# Altium schematic symbol library seeed.SchLib: 41 symbols
Pins are listed as number, name and electrical type; pins without a type are passive.

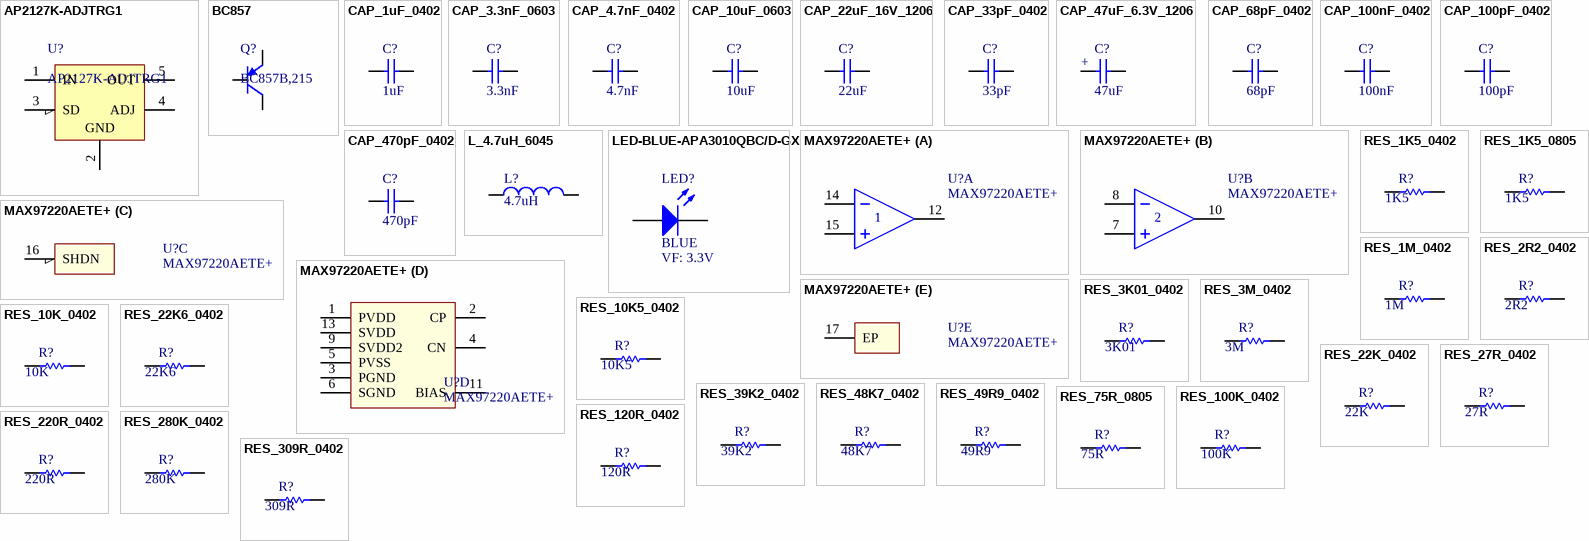
[diagram p0: symbols AP2127K-ADJTRG1 to RES_309R_0402]

## AP2127K-ADJTRG1
designator U?
300mA HIGH SPEED, EXTREMELY LOW NOISE CMOS LDO REGULATOR; Manufacturer: Diodes Inc; Vin(Max)(V): 5.5; Iq(Typ)(mA): 0.06; Vdo(Typ)(mV): 170; Vout Adj(Min)(V): 0.8; Eco-Plan: Green (RoHS & no Sb/Br); Accuracy(%): 2; Iout(Max)(A): 0.3; Vout Adj(Max)(V): 5.0; Vin(Min)(V): 2.5; SubFamily: Single Channel LDO; PackageVersion: 4093553-3/G; Code_JEDEC: MO-203; ComponentLink2Description: Datasheet; ComponentLink1URL: http://www.ti.com/; ComponentLink3Description: Package Specification; ComponentLink2URL: http://www.ti.com/general/docs/lit/getliterature.tsp?genericPartNumber=TPS71701&fileType=pdf; MPN: AP2127K-ADJTRG1; Mounting Technology: Surface Mount; ComponentLink1Description: Manufacturer URL; ComponentLink3URL: http://www.ti.com/litv/pdf/mpds025f; PackageDescription: 5-Pin Plastic Small-Outline, Body 2 x 1.25 mm, Pitch 0.65 mm; PackageReference: DCK0005A
footprint SOT23-5_N (SOT23, 5-Leads, Body 2.9x1.6mm, Pitch 0.95mm, Lead Span 2.8mm, IPC Medium Density)
footprint SOT23-5_L (SOT23, 5-Leads, Body 2.9x1.6mm, Pitch 0.95mm, Lead Span 2.8mm, IPC High Density)
footprint SOT23-5_M (SOT23, 5-Leads, Body 2.9x1.6mm, Pitch 0.95mm, Lead Span 2.8mm, IPC Low Density)
pins: 1 IN (power) "Input pin. A small capacitor is needed from this pin to ground to assure stability. Typical input capacitor = 1.0uF. Both input and output capacitor grounds should be tied back to the IC ground with no significant impedance (See Datasheet)", 2 GND (power) "Ground pin.", 3 SD "Driving the enable pin (EN) over 1.2V turns on the regulator. Driving this pin below 0.4V puts the regulator into shutdown mode, reducing operating current to 18nA typical.", 4 ADJ "Feedback pin (FB) for adjustable versions", 5 OUT (power) "Regulated output voltage pin. A small 1-uF ceramic capacitor is needed from this pin to ground to assure stability.See Input and Output Capacitor Requirements in the Application Information section for more details."

## BC857
designator Q?, comment BC857B,215
PNP,Vce=45V,Ic=0.1A,hfe=220~475; Manufacturer: Infineon; Ptot (max): 330Â mW; fT (typ): 250Â MHz; VCBO (max): 50Â V; ICM (max): 200Â mA; Green: TRUE; VCEO (max): 45Â V; VEBO (max): 5Â V; ICBO (max): 15Â nA; IC (max): 100Â mA; Packing: Reel; ComponentLink2Description: Datasheet; MPN: BC857B,215; PackageReference: SOT23; ComponentLink1URL: http://www.infineon.com/; IBM (max): 200Â mA; PackageDescription: 3-Pin Small Outline Transistor Package, 1.3 x 2.9 mm Body, 0.95 mm Pitch; ComponentLink3URL: http://www.infineon.com/dgdl/SOT23-Package_Overview.pdf?folderId=db3a30431936bc4b0119532290053c66&fileId=db3a30431936bc4b0119533468123c85; ComponentLink3Description: Package Specification; Mounting Technology: Surface Mount; ComponentLink1Description: Manufacturer URL; PackageVersion: Apr-08; Polarity: PNP; ComponentLink2URL: http://www.infineon.com/dgdl/bc857series_bc858series_bc859series_bc860series.pdf?folderId=db3a304314dca389011541d30fa21656&fileId=db3a304314dca389011541da0e3a1661
footprint NXP-SOT23_M (SOT23, 3-Leads, Body 3x1.4mm, Pitch 0.95mm, IPC Low Density)
footprint NXP-SOT23_N (SOT23, 3-Leads, Body 3x1.4mm, Pitch 0.95mm, IPC Medium Density)
footprint NXP-SOT23_L (SOT23, 3-Leads, Body 3x1.4mm, Pitch 0.95mm, IPC High Density)
pins: 1 B, 2 E, 3 C

## CAP_1uF_0402
designator C?, comment value 1uF  (hidden comment: GRM155R61C105KA12D)
0402 1μF ±10% 16V X5R; Voltage: 10V; PackageReference: 0402; MPN: GRM155R61C105KA12D; Dielectric: X5R
footprint CAPC0402(1005)33_L (Chip Capacitor, Body 1.0x0.5mm, Height 0.33mm, IPC High Density)
footprint CAPC0402(1005)33_M (Chip Capacitor, Body 1.0x0.5mm, Height 0.33mm, IPC Low Density)
footprint CAPC0402(1005)33_N (Chip Capacitor, Body 1.0x0.5mm, Height 0.33mm, IPC Medium Density)
pins: 1, 2

## CAP_3.3nF_0603
designator C?, comment value 3.3nF  (hidden comment: CL10C332JB8NFNC)
0603 3.3nF ±5% 50V C0G(NPO) H=0.8mm; PackageReference: 0603; MPN: CL10C332JB8NFNC; Voltage: 50V; Dielectric: C0G
footprint CAPC0603(1608)55_L (Chip Capacitor, Body 1.6x0.8mm, Height 0.55mm, IPC High Density)
footprint CAPC0603(1608)55_M (Chip Capacitor, Body 1.6x0.8mm, Height 0.55mm, IPC Low Density)
footprint CAPC0603(1608)55_N (Chip Capacitor, Body 1.6x0.8mm, Height 0.55mm, IPC Medium Density)
pins: 1, 2

## CAP_4.7nF_0402
designator C?, comment value 4.7nF  (hidden comment: GRM155R71H472KA01D)
0402 4.7nF ±10% 50V X7R; PackageReference: 0402; MPN: GRM155R71H472KA01D; Voltage: 50V; Dielectric: X7R
footprint CAPC0402(1005)33_L (Chip Capacitor, Body 1.0x0.5mm, Height 0.33mm, IPC High Density)
footprint CAPC0402(1005)33_M (Chip Capacitor, Body 1.0x0.5mm, Height 0.33mm, IPC Low Density)
footprint CAPC0402(1005)33_N (Chip Capacitor, Body 1.0x0.5mm, Height 0.33mm, IPC Medium Density)
pins: 1, 2

## CAP_10uF_0603
designator C?, comment value 10uF  (hidden comment: CL10A106MQ8NNNC)
0603 10uF ±20% 6.3V X5R H=0.8mm; Voltage: 10V; PackageReference: 0603; MPN: CL10A106MQ8NNNC; Dielectric: X5R
footprint CAPC0603(1608)55_L (Chip Capacitor, Body 1.6x0.8mm, Height 0.55mm, IPC High Density)
footprint CAPC0603(1608)55_M (Chip Capacitor, Body 1.6x0.8mm, Height 0.55mm, IPC Low Density)
footprint CAPC0603(1608)55_N (Chip Capacitor, Body 1.6x0.8mm, Height 0.55mm, IPC Medium Density)
pins: 1, 2

## CAP_22uF_16V_1206
designator C?, comment value 22uF  (hidden comment: CL31A226KOHNNNE)
1206 22uF ±10% 16V X5R; PackageReference: 1206; MPN: CL31A226KOHNNNE; Voltage: 16V; Dielectric: X5R
footprint CAPC1206(3216)75_L (Chip Capacitor, Body 3.2x1.6mm, Height 0.75mm, IPC High Density)
footprint CAPC1206(3216)75_M (Chip Capacitor, Body 3.2x1.6mm, Height 0.75mm, IPC Low Density)
footprint CAPC1206(3216)75_N (Chip Capacitor, Body 3.2x1.6mm, Height 0.75mm, IPC Medium Density)
pins: 1, 2

## CAP_33pF_0402
designator C?, comment value 33pF  (hidden comment: CC0402JRNPO9BN330)
0402 33PF ±5% 50V NPO; Dielectric: C0G; PackageReference: 0402; MPN: CC0402JRNPO9BN330; Voltage: 50V
footprint CAPC0402(1005)33_L (Chip Capacitor, Body 1.0x0.5mm, Height 0.33mm, IPC High Density)
footprint CAPC0402(1005)33_M (Chip Capacitor, Body 1.0x0.5mm, Height 0.33mm, IPC Low Density)
footprint CAPC0402(1005)33_N (Chip Capacitor, Body 1.0x0.5mm, Height 0.33mm, IPC Medium Density)
pins: 1, 2

## CAP_47uF_6.3V_1206
designator C?, comment value 47uF  (hidden comment: TAJA476K006RNJ)
47µF ±10% 6.3V ESR=1.6Ω@100kHz; Dielectric: Tantalum; PackageReference: 1206; MPN: TAJA476K006RNJ; Voltage: 6.3V
footprint CAPPM3216X180N
pins: 1, 2
text: +

## CAP_68pF_0402
designator C?, comment value 68pF  (hidden comment: GRM1555C1H680JA01D)
0402 68pF ±5% 50V C0G; PackageReference: 0402; MPN: GRM1555C1H680JA01D; Voltage: 50V; Dielectric: C0G
footprint CAPC0402(1005)33_L (Chip Capacitor, Body 1.0x0.5mm, Height 0.33mm, IPC High Density)
footprint CAPC0402(1005)33_M (Chip Capacitor, Body 1.0x0.5mm, Height 0.33mm, IPC Low Density)
footprint CAPC0402(1005)33_N (Chip Capacitor, Body 1.0x0.5mm, Height 0.33mm, IPC Medium Density)
pins: 1, 2

## CAP_100nF_0402
designator C?, comment value 100nF  (hidden comment: GRM155R61C104KA88D)
0402 100nF ±10% 16V X5R; PackageReference: 0402; MPN: GRM155R61C104KA88D; Voltage: 16V; Dielectric: X5R
footprint CAPC0402(1005)33_L (Chip Capacitor, Body 1.0x0.5mm, Height 0.33mm, IPC High Density)
footprint CAPC0402(1005)33_M (Chip Capacitor, Body 1.0x0.5mm, Height 0.33mm, IPC Low Density)
footprint CAPC0402(1005)33_N (Chip Capacitor, Body 1.0x0.5mm, Height 0.33mm, IPC Medium Density)
pins: 1, 2

## CAP_100pF_0402
designator C?, comment value 100pF  (hidden comment: 0402CG101J500NT)
0402 100pF ±5% 50V C0G，NP0; Dielectric: C0G; PackageReference: 0402; MPN: 0402CG101J500NT; Voltage: 50V
footprint CAPC0402(1005)33_L (Chip Capacitor, Body 1.0x0.5mm, Height 0.33mm, IPC High Density)
footprint CAPC0402(1005)33_M (Chip Capacitor, Body 1.0x0.5mm, Height 0.33mm, IPC Low Density)
footprint CAPC0402(1005)33_N (Chip Capacitor, Body 1.0x0.5mm, Height 0.33mm, IPC Medium Density)
pins: 1, 2

## CAP_470pF_0402
designator C?, comment value 470pF  (hidden comment: GRM1555C1H471JA01D)
0402 470pF ±5% 50V C0G; PackageReference: 0402; MPN: GRM1555C1H471JA01D; Voltage: 50V; Dielectric: C0G
footprint CAPC0402(1005)33_L (Chip Capacitor, Body 1.0x0.5mm, Height 0.33mm, IPC High Density)
footprint CAPC0402(1005)33_M (Chip Capacitor, Body 1.0x0.5mm, Height 0.33mm, IPC Low Density)
footprint CAPC0402(1005)33_N (Chip Capacitor, Body 1.0x0.5mm, Height 0.33mm, IPC Medium Density)
pins: 1, 2

## L_4.7uH_6045
designator L?, comment value 4.7uH  (hidden comment: SWPA6045S4R7MT)
6.0*6.0*4.5 4.7μH ±20% 5.50A DCR=0.034 SRF=24MHz; MPN: SWPA6045S4R7MT
footprint L_6045
pins: 1, 2

## LED-BLUE-APA3010QBC/D-GX
designator LED?, comment BLUE  VF: 3.3V
LED BLUE; MPN: APA3010QBC/D-GX; VALUE: BLUE
footprint LED_APA3010x (LED R/A)
pins: 1 K, 2 A

## MAX97220AETE+
designator U?
Differential Input DirectDrive Line Drivers/Headphone Amplifiers; MPN: MAX97220AETE+T; Farnell: 2516953; DigiKey: MAX97220AETE+TCT-ND
footprint 21-0136I_T1633-4
part A pins: 12 OUT1, 14 IN1-, 15 IN1+
part B pins: 7 IN2+, 8 IN2-, 10 OUT2
part C pins: 16 SHDN
part D pins: 1 PVDD (power), 2 CP (power), 3 PGND (power), 4 CN (power), 5 PVSS (power), 6 SGND (power), 9 SVDD2 (power), 11 BIAS (power), 13 SVDD (power)
part E pins: 17 EP (power)

## RES_1K5_0402
designator R?, comment 1K5
0402 1.5KΩ ±1% 1/16W; MPN: 0402WGF1501TCE; Power: 62.5mW; Tolerance: 1%; Value: 1K5
footprint RESC0402(1005)_L (Chip Resistor, Body 1.0x0.5mm, IPC High Density)
footprint RESC0402(1005)_M (Chip Resistor, Body 1.0x0.5mm, IPC Low Density)
footprint RESC0402(1005)_N (Chip Resistor, Body 1.0x0.5mm, IPC Medium Density)
pins: 1, 2

## RES_1K5_0805
designator R?, comment 1K5
0805 1.5KΩ ±5% 1/8W; MPN: RC0805JR-071K5L; Power: 125mW; Tolerance: 5%; Value: 1K5
footprint RESC0805(2012)_L (Chip Resistor, Body 2.0x1.3mm, IPC High Density)
footprint RESC0805(2012)_M (Chip Resistor, Body 2.0x1.3mm, IPC Low Density)
footprint RESC0805(2012)_N (Chip Resistor, Body 2.0x1.3mm, IPC Medium Density)
pins: 1, 2

## RES_1M_0402
designator R?, comment 1M
0402 1MΩ ±1% 1/16W; MPN: RC0402FR-071ML; Power: 62.5mW; Tolerance: 1%; Value: 1M
footprint RESC0402(1005)_L (Chip Resistor, Body 1.0x0.5mm, IPC High Density)
footprint RESC0402(1005)_M (Chip Resistor, Body 1.0x0.5mm, IPC Low Density)
footprint RESC0402(1005)_N (Chip Resistor, Body 1.0x0.5mm, IPC Medium Density)
pins: 1, 2

## RES_2R2_0402
designator R?, comment 2R2
0402 2.2Ω ±1% 1/16W; MPN: 0402WGF220KTCE; Power: 62.5mW; Tolerance: 1%; Value: 2R2
footprint RESC0402(1005)_L (Chip Resistor, Body 1.0x0.5mm, IPC High Density)
footprint RESC0402(1005)_M (Chip Resistor, Body 1.0x0.5mm, IPC Low Density)
footprint RESC0402(1005)_N (Chip Resistor, Body 1.0x0.5mm, IPC Medium Density)
pins: 1, 2

## RES_3K01_0402
designator R?, comment 3K01
0402 3.01KΩ ±1% 1/16W; MPN: RC0402FR-073K01L; Power: 62.5mW; Tolerance: 1%; Value: 3K01
footprint RESC0402(1005)_L (Chip Resistor, Body 1.0x0.5mm, IPC High Density)
footprint RESC0402(1005)_M (Chip Resistor, Body 1.0x0.5mm, IPC Low Density)
footprint RESC0402(1005)_N (Chip Resistor, Body 1.0x0.5mm, IPC Medium Density)
pins: 1, 2

## RES_3M_0402
designator R?, comment 3M
0402 3MΩ ±5% 1/16W; MPN: 0402WGJ0305TCE; Power: 62.5mW; Tolerance: 5%; Value: 3M
footprint RESC0402(1005)_L (Chip Resistor, Body 1.0x0.5mm, IPC High Density)
footprint RESC0402(1005)_M (Chip Resistor, Body 1.0x0.5mm, IPC Low Density)
footprint RESC0402(1005)_N (Chip Resistor, Body 1.0x0.5mm, IPC Medium Density)
pins: 1, 2

## RES_10K5_0402
designator R?, comment 10K5
0402 10.5KΩ ±1% 1/16W; MPN: RC0402FR-0710K5L; Power: 62.5mW; Tolerance: 1%; Value: 10K5
footprint RESC0402(1005)_L (Chip Resistor, Body 1.0x0.5mm, IPC High Density)
footprint RESC0402(1005)_M (Chip Resistor, Body 1.0x0.5mm, IPC Low Density)
footprint RESC0402(1005)_N (Chip Resistor, Body 1.0x0.5mm, IPC Medium Density)
pins: 1, 2

## RES_10K_0402
designator R?, comment 10K
0402 10KΩ ±5% 1/16W; MPN: RC0402JR-0710KL; Tolerance: 1%; Power: 62.5mW; Value: 10K
footprint RESC0402(1005)_L (Chip Resistor, Body 1.0x0.5mm, IPC High Density)
footprint RESC0402(1005)_M (Chip Resistor, Body 1.0x0.5mm, IPC Low Density)
footprint RESC0402(1005)_N (Chip Resistor, Body 1.0x0.5mm, IPC Medium Density)
pins: 1, 2

## RES_22K6_0402
designator R?, comment 22K6
0402 22.6KΩ ±1% 1/16W; MPN: RC0402FR-0722K6L; Power: 62.5mW; Tolerance: 1%; Value: 22K6
footprint RESC0402(1005)_L (Chip Resistor, Body 1.0x0.5mm, IPC High Density)
footprint RESC0402(1005)_M (Chip Resistor, Body 1.0x0.5mm, IPC Low Density)
footprint RESC0402(1005)_N (Chip Resistor, Body 1.0x0.5mm, IPC Medium Density)
pins: 1, 2

## RES_22K_0402
designator R?, comment 22K
0402 22KΩ ±1% 1/16W; MPN: RC0402FR-0722KL; Power: 62.5mW; Tolerance: 1%; Value: 22K
footprint RESC0402(1005)_L (Chip Resistor, Body 1.0x0.5mm, IPC High Density)
footprint RESC0402(1005)_M (Chip Resistor, Body 1.0x0.5mm, IPC Low Density)
footprint RESC0402(1005)_N (Chip Resistor, Body 1.0x0.5mm, IPC Medium Density)
pins: 1, 2

## RES_27R_0402
designator R?, comment 27R
0402 27Ω ±1% 1/16W; MPN: RC0402FR-0727RL; Power: 62.5mW; Tolerance: 1%; Value: 27R
footprint RESC0402(1005)_L (Chip Resistor, Body 1.0x0.5mm, IPC High Density)
footprint RESC0402(1005)_M (Chip Resistor, Body 1.0x0.5mm, IPC Low Density)
footprint RESC0402(1005)_N (Chip Resistor, Body 1.0x0.5mm, IPC Medium Density)
pins: 1, 2

## RES_39K2_0402
designator R?, comment 39K2
0402 39.2KΩ ±1% 1/16W; MPN: RC0402FR-0739K2L; Power: 62.5mW; Tolerance: 1%; Value: 39K2
footprint RESC0402(1005)_L (Chip Resistor, Body 1.0x0.5mm, IPC High Density)
footprint RESC0402(1005)_M (Chip Resistor, Body 1.0x0.5mm, IPC Low Density)
footprint RESC0402(1005)_N (Chip Resistor, Body 1.0x0.5mm, IPC Medium Density)
pins: 1, 2

## RES_48K7_0402
designator R?, comment 48K7
0402 48.7KΩ ±1% 1/16W; MPN: 0402WGF4872TCE; Power: 62.5mW; Tolerance: 1%; Value: 48K7
footprint RESC0402(1005)_L (Chip Resistor, Body 1.0x0.5mm, IPC High Density)
footprint RESC0402(1005)_M (Chip Resistor, Body 1.0x0.5mm, IPC Low Density)
footprint RESC0402(1005)_N (Chip Resistor, Body 1.0x0.5mm, IPC Medium Density)
pins: 1, 2

## RES_49R9_0402
designator R?, comment 49R9
0402 49.9Ω ±1% 1/16W; MPN: RC0402FR-0749R9L; Power: 62.5mW; Tolerance: 1%; Value: 49R9
footprint RESC0402(1005)_L (Chip Resistor, Body 1.0x0.5mm, IPC High Density)
footprint RESC0402(1005)_M (Chip Resistor, Body 1.0x0.5mm, IPC Low Density)
footprint RESC0402(1005)_N (Chip Resistor, Body 1.0x0.5mm, IPC Medium Density)
pins: 1, 2

## RES_75R_0805
designator R?, comment 75R
0805 75Ω ±1% 1/8W; MPN: RC0805FR-0775RL; Power: 62.5mW; Tolerance: 1%; Value: 75R
footprint RESC0805(2012)_L (Chip Resistor, Body 2.0x1.3mm, IPC High Density)
footprint RESC0805(2012)_M (Chip Resistor, Body 2.0x1.3mm, IPC Low Density)
footprint RESC0805(2012)_N (Chip Resistor, Body 2.0x1.3mm, IPC Medium Density)
pins: 1, 2

## RES_100K_0402
designator R?, comment 100K
0402 100KΩ ±1% 1/16W; MPN: RC0402FR-07100KL; Power: 62.5mW; Tolerance: 1%; Value: 100K
footprint RESC0402(1005)_L (Chip Resistor, Body 1.0x0.5mm, IPC High Density)
footprint RESC0402(1005)_M (Chip Resistor, Body 1.0x0.5mm, IPC Low Density)
footprint RESC0402(1005)_N (Chip Resistor, Body 1.0x0.5mm, IPC Medium Density)
pins: 1, 2

## RES_120R_0402
designator R?, comment 120R
0402 120Ω ±1% 1/16W; MPN: RC0402FR-07120RL; Power: 62.5mW; Tolerance: 1%; Value: 120R
footprint RESC0402(1005)_L (Chip Resistor, Body 1.0x0.5mm, IPC High Density)
footprint RESC0402(1005)_M (Chip Resistor, Body 1.0x0.5mm, IPC Low Density)
footprint RESC0402(1005)_N (Chip Resistor, Body 1.0x0.5mm, IPC Medium Density)
pins: 1, 2

## RES_220R_0402
designator R?, comment 220R
0402 220Ω ±1% 1/16W; MPN: RC0402FR-07220RL; Power: 62.5mW; Tolerance: 1%; Value: 220R
footprint RESC0402(1005)_L (Chip Resistor, Body 1.0x0.5mm, IPC High Density)
footprint RESC0402(1005)_M (Chip Resistor, Body 1.0x0.5mm, IPC Low Density)
footprint RESC0402(1005)_N (Chip Resistor, Body 1.0x0.5mm, IPC Medium Density)
pins: 1, 2

## RES_280K_0402
designator R?, comment 280K
0402 280KΩ ±1% 1/16W; MPN: 0402WGF2803TCE; Power: 62.5mW; Tolerance: 1%; Value: 280K
footprint RESC0402(1005)_L (Chip Resistor, Body 1.0x0.5mm, IPC High Density)
footprint RESC0402(1005)_M (Chip Resistor, Body 1.0x0.5mm, IPC Low Density)
footprint RESC0402(1005)_N (Chip Resistor, Body 1.0x0.5mm, IPC Medium Density)
pins: 1, 2

## RES_309R_0402
designator R?, comment 309R
0402 309Ω ±1% 1/16W; MPN: 0402WGF3090TCE; Power: 62.5mW; Tolerance: 1%; Value: 309R
footprint RESC0402(1005)_L (Chip Resistor, Body 1.0x0.5mm, IPC High Density)
footprint RESC0402(1005)_M (Chip Resistor, Body 1.0x0.5mm, IPC Low Density)
footprint RESC0402(1005)_N (Chip Resistor, Body 1.0x0.5mm, IPC Medium Density)
pins: 1, 2

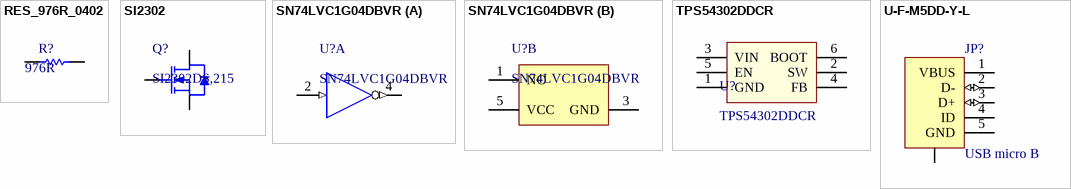
[diagram p1: symbols RES_976R_0402 to U-F-M5DD-Y-L]

## RES_976R_0402
designator R?, comment 976R
0402 976Ω ±1% 1/16W; MPN: 0402WGF9760TCE; Power: 62.5mW; Tolerance: 1%; Value: 976R
footprint RESC0402(1005)_L (Chip Resistor, Body 1.0x0.5mm, IPC High Density)
footprint RESC0402(1005)_M (Chip Resistor, Body 1.0x0.5mm, IPC Low Density)
footprint RESC0402(1005)_N (Chip Resistor, Body 1.0x0.5mm, IPC Medium Density)
pins: 1, 2

## SI2302
designator Q?, comment SI2302DS,215
N-Channel Enhancement Mode Field-Effect Transistor, 20 V, 2.5 A, 3-Pin SOT23, Tape and Reel; Manufacturer: NXP Semiconductors; MPN: SI2302CDS-T1-GE3; Ciss [typ] (pF): 230; VDS [max] (V): 20; Channel Type: N; Coss [typ] (pF): 125; ID [max] (A): 2.5; Packing: Tape & Reel; DatasheetVersion: Rev. 02; PackageVersion: 06-03-16, 03/2006; Code_JEDEC: TO-236AB; ComponentLink3Description: Package Specification; ComponentLink2URL: http://www.nxp.com/documents/data_sheet/SI2302DS.pdf; PackageDescription: 3-Pin Small Outline Transistor Package, Body 2.9 x 1.3 mm, Pitch 0.95 mm; ComponentLink2Description: Datasheet; ComponentLink1Description: Manufacturer URL; Mounting Technology: Surface Mount; ComponentLink1URL: http://www.nxp.com/; ComponentLink3URL: http://www.nxp.com/documents/outline_drawing/sot023_po.pdf; PackageReference: SOT23
footprint NXP-SOT23_M (SOT23, 3-Leads, Body 3x1.4mm, Pitch 0.95mm, IPC Low Density)
footprint NXP-SOT23_L (SOT23, 3-Leads, Body 3x1.4mm, Pitch 0.95mm, IPC High Density)
footprint NXP-SOT23_N (SOT23, 3-Leads, Body 3x1.4mm, Pitch 0.95mm, IPC Medium Density)
pins: 1 G "gate", 2 S "source", 3 D "drain"

## SN74LVC1G04DBVR
designator U?
Inverter IC 1 Channel  SOT-23-5; Manufacturer: Texas Instruments; 3-State Output: No; Sub-Family: Inverting Buffer/Driver; Logic: Inverting; Rating: Catalog; VCC(Max)(V): 5.5; ICC @ Nom Voltage(Max)(mA): 0.01; Output Type: CMOS; Output Drive (IOL/IOH)(Max)(mA): 32/-32; tpd @ Nom Voltage(Max)(ns): 7.5,5.2,4.2,3.7; Technology Family: LVC; Input Type: CMOS/TTL; Bits(#): 1; F @ Nom Voltage(Max)(Mhz): 150; VCC(Min)(V): 1.65; Voltage(Nom)(V): 1.8,2.5,3.3,5; DatasheetVersion: SCES214AD; Schmitt Trigger: No; Operating Temperature Range(C): -40 to 125,-40 to 85; PackageReference: DBV0005A; Generic Part Number: SN74LVC1G04; MPN: SN74LVC1G04DBVR
footprint DBV0005A_M (SOT23, 5-Leads, Body 3.05x1.75mm, Pitch 0.95mm, IPC Low Density)
footprint DBV0005A_L (SOT23, 5-Leads, Body 3.05x1.75mm, Pitch 0.95mm, IPC High Density)
footprint DBV0005A_N (SOT23, 5-Leads, Body 3.05x1.75mm, Pitch 0.95mm, IPC Medium Density)
part A pins: 2 A (in) "Input A", 4 Y (out) "Output Y"
part B pins: 1 NC "Ground", 3 GND (power) "Ground Pin", 5 VCC (power) "Power Pin"

## TPS54302DDCR
designator U?
Buck Switching Regulator IC Positive Adjustable 0.596V 1 Output 3A SOT-23-6 Thin, TSOT-23-6; MPN: TPS54302DDCR
footprint FAIR-MA06A_V (SOT23, 6-Leads, Body 3x1.7mm, Pitch 0.95mm)
pins: 1 GND (power), 2 SW, 3 VIN (power), 4 FB, 5 EN, 6 BOOT (power)

## U-F-M5DD-Y-L
designator JP?, comment USB micro B
USB - micro B USB 2.0 Receptacle Connector 5 Position Surface Mount, Right Angle; MPN: U-F-M5DD-Y-L
footprint U-F-M5DD-Y-L (USB micro B Connector)
pins: 0 CHS, 1 VBUS (power), 2 D- (io), 3 D+ (io), 4 ID, 5 GND (power)